# EAGLE library part JCE0612S24 (library E-P-002-R1.0 Fuel Cell library)
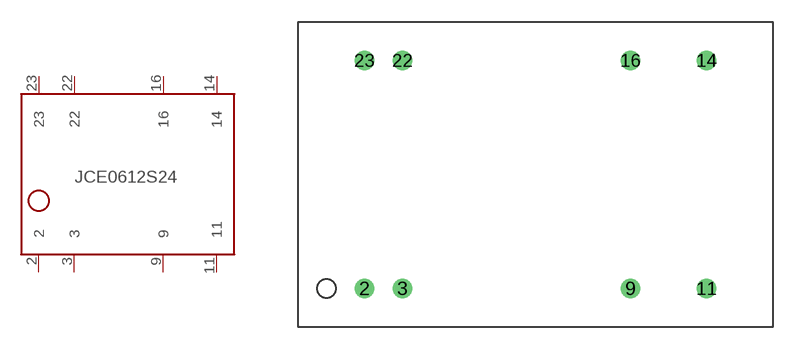
[diagram p0: symbol with the pads of JCE0612S24; footprint JCE0612S24]

Designator prefix -

## JCE0612S24  [JCE0612S24]
2  2
3  3
9  9
11  11
14  14
16  16
22  22
23  23

## Footprint JCE0612S24 (pad centres in mm)
drill 0.813: 2 3.81,2.54; 3 6.35,2.54; 9 21.59,2.54; 11 26.67,2.54; 14 26.67,17.78; 16 21.59,17.78; 22 6.35,17.78; 23 3.81,17.78